# Altium footprint library HDRV6W64P254_2X3_762X508X889P.PcbLib: 1 footprints
Each footprint in its own frame and in the unit in brackets; x right, y up, seen from the top. Pads: shape width x height; smd on the part's side, far side on the other; paste and mask are expansions set on the pad; w line width, h text height; cw(c..) or ccw(c..) is an arc to the next point about the centre after c.
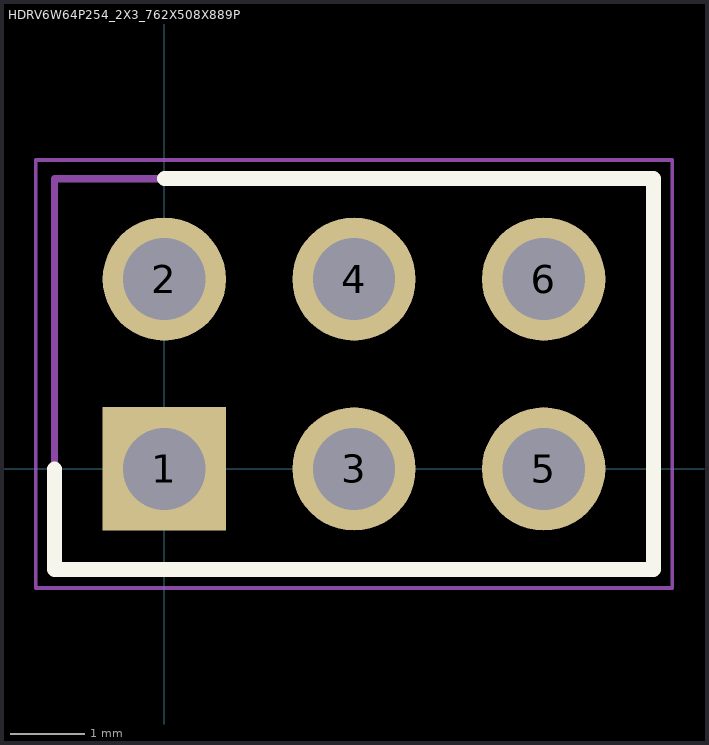
[diagram p0: the footprint, top view; thin cyan lines are the x and y axes]

## HDRV6W64P254_2X3_762X508X889P [mm]
pads (6):
  rect 1.65x1.65 / inner round 1.65 / far side rect 1.65x1.65 hole 1.1: 1(0,0)
  round 1.65 hole 1.1: 2(0,2.54) 3(2.54,0) 4(2.54,2.54) 5(5.08,0) 6(5.08,2.54)
Top Overlay:
  lines w0.2: -1.47,0 -1.47,-1.345 6.55,-1.345 6.55,3.885 0,3.885
Mechanical 15:
  lines w0.1: -1.47,-1.345 -1.47,3.885 6.55,3.885 6.55,-1.345 -1.47,-1.345
Mechanical 20:
  lines w0.05: -1.72,-1.595 -1.72,4.135 6.8,4.135 6.8,-1.595 -1.72,-1.595